# EAGLE library part ADG884BRMZ (library ADG884BRMZ)
ADG884BRMZ, Analogue SPDT Switch Dual SPDT, 3, 5V, 10-Pin, MSOP Source: Datasheet <http://www.analog.com/static/imported-files/data_sheets/ADG884.pdf>
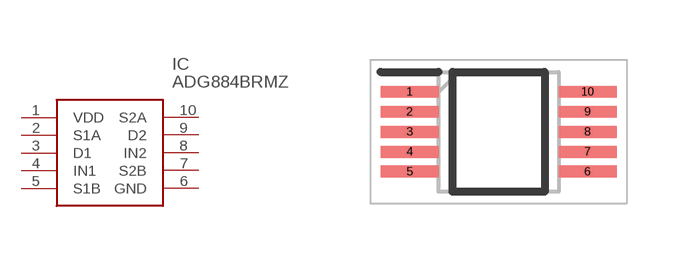
[diagram p0: symbol with the pads of SOP50P490X110-10N; footprint SOP50P490X110-10N]

Designator prefix IC

## ADG884BRMZ (Description: ADG884BRMZ, Analogue SPDT Switch Dual SPDT, 3, 5V, 10-Pin, MSOP; Height: 1.1mm; Manufacturer_Name: Analog Devices; Manufacturer_Part_Number: ADG884BRMZ; Mouser_Part_Number: 584-ADG884BRMZ; Mouser_Price-Stock: https://www.mouser.co.uk/ProductDetail/Analog-Devices/ADG884BRMZ?qs=BpaRKvA4VqHGAEKiRnJ1Qg%3D%3D)  [SOP50P490X110-10N]
1  VDD
2  S1A
3  D1
4  IN1
5  S1B
6  GND
7  S2B
8  IN2
9  D2
10  S2A

## Footprint SOP50P490X110-10N (pad centres in mm)
MSOP-8-ren1
smd 1.45 x 0.3: 1 -2.225,1; 2 -2.225,0.5; 3 -2.225,0; 4 -2.225,-0.5; 5 -2.225,-1; 6 2.225,-1; 7 2.225,-0.5; 8 2.225,0; 9 2.225,0.5; 10 2.225,1